# Altium footprint library dom-key.PCBLIB: 4 footprints
Each footprint in its own frame and in the unit in brackets; x right, y up, seen from the top. Pads: shape width x height; smd on the part's side, far side on the other; paste and mask are expansions set on the pad; w line width, h text height; cw(c..) or ccw(c..) is an arc to the next point about the centre after c.
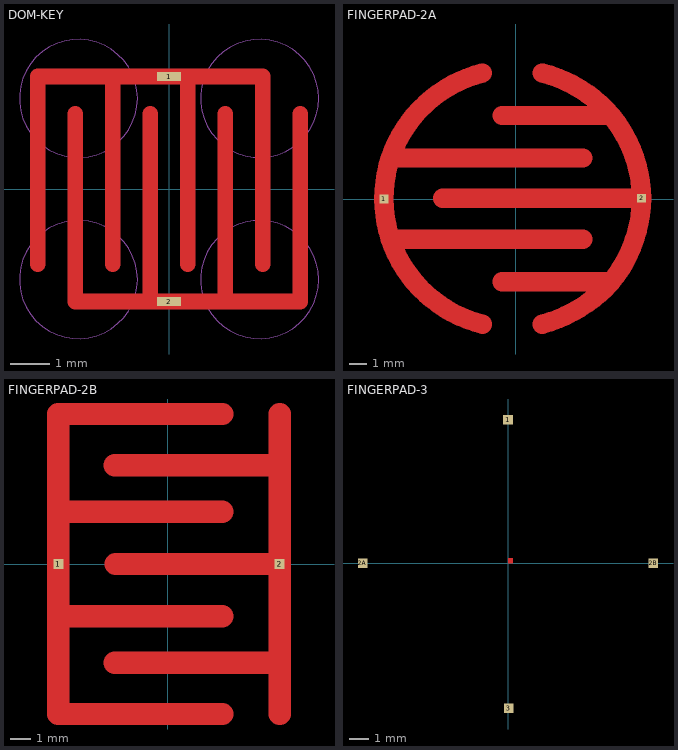
[diagram p0: the footprints below, top view; thin cyan lines are the x and y axes]

## DOM-KEY [mil]
pads (2):
  rect 24x9 smd: 1(0,112.5) 2(0,-112.5)
Top Layer:
  lines w15.75: -131.25,-75 -131.25,112.5 -56.25,112.5 ; -93.75,75 -93.75,-112.5 -18.75,-112.5 ; -56.25,-75 -56.25,112.5 ; -18.75,75 -18.75,-112.5 ; 18.75,-75 18.75,112.5 ; 56.25,75 56.25,-112.5 ; 93.75,-75 93.75,112.5 18.75,112.5 ; 131.25,75 131.25,-112.5 56.25,-112.5 ; -56.25,112.5 0,112.5 18.75,112.5 ; -18.75,-112.5 0,-112.5 56.25,-112.5
Top Solder:
  rectangle: -150,-150 150,150
Mechanical 16:
  circle w0: c-90.55,90.55 r59.06
  circle w0: c90.55,90.55 r59.06
  circle w0: c90.55,-90.55 r59.06
  circle w0: c-90.55,-90.55 r59.06

## FINGERPAD-2A [mil]
pads (2):
  rect 19.69x19.69 smd: 1(-294.63,0) 2(281.75,1.61)
Top Layer:
  lines w43.31: -162.61,1.61 281.75,1.61 ; -74.06,-280.14 cw(c-2.52,4.22) -280.14,-90.16 ; -74.06,281.75 ccw(c-2.37,-2.78) -280.14,91.77 ; -30.59,-185.15 214.13,-185.15 ; -30.59,186.76 214.13,186.76 ; 59.57,-280.14 ccw(c-26.45,33.06) 214.13,-185.15 ; 59.57,281.75 cw(c-13.95,-11.12) 214.13,186.76 ; 149.73,-90.16 -280.14,-90.16 ; 149.73,91.77 -280.14,91.77 ; -280.14,-90.16 cw(c7.89,2.37) -294.63,0 cw(c11.27,-1.27) -280.14,91.77 ; 214.13,-185.15 ccw(c-23.7,6.58) 281.75,1.61 ; 214.13,186.76 cw(c-20.64,-3.9) 281.75,1.61

## FINGERPAD-2B [mil]
pads (2):
  rect 19.69x19.69 smd: 1(-211.2,0) 2(216,0)
Top Layer:
  lines w43.31: -102.4,-190.4 216,-190.4 ; -102.4,190.4 216,190.4 ; -100.8,0 216,0 ; 105.6,-289.6 -211.2,-289.6 -211.2,-100.8 ; 105.6,-100.8 -211.2,-100.8 ; 105.6,100.8 -211.2,100.8 ; 105.6,289.6 -211.2,289.6 -211.2,100.8 ; 216,-289.6 216,-190.4 ; 216,289.6 216,190.4 ; -211.2,-100.8 -211.2,0 -211.2,100.8 ; 216,-190.4 216,0 ; 216,0 216,190.4

## FINGERPAD-3 [mil]
pads (4):
  rect 19.69x19.69 smd: 1(0,294.89) 2A(-298.08,0) 2B(298.08,0) 3(1.59,-298.08)
Top Layer:
  region: 0,0 10,0 10,10 0,10
  region: 0,0 10,0 10,10 0,10
  region: 0,0 10,0 10,10 0,10
  region: 0,0 10,0 10,10 0,10
  region: 0,0 10,0 10,10 0,10
  region: 0,0 10,0 10,10 0,10
  region: 0,0 10,0 10,10 0,10